# Altium footprint library Inductor_Small.PcbLib: 1 footprints
Each footprint in its own frame and in the unit in brackets; x right, y up, seen from the top. Pads: shape width x height; smd on the part's side, far side on the other; paste and mask are expansions set on the pad; w line width, h text height; cw(c..) or ccw(c..) is an arc to the next point about the centre after c.
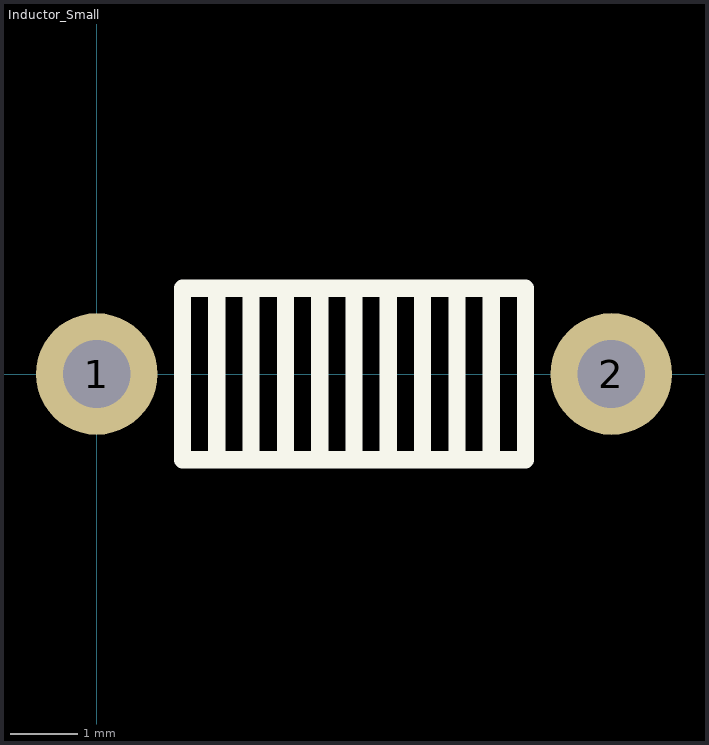
[diagram p0: the footprint, top view; thin cyan lines are the x and y axes]

## Inductor_Small [mm]
pads (2):
  round 1.8 hole 1: 1(0,0) 2(7.62,0)
Top Overlay:
  lines w0.254: 1.778,-1.27 1.778,1.27 ; 2.286,-1.27 2.286,1.27 ; 2.794,-1.27 2.794,1.27 ; 3.302,-1.27 3.302,1.27 ; 3.81,-1.27 3.81,1.27 ; 4.318,-1.27 4.318,1.27 ; 4.826,-1.27 4.826,1.27 ; 5.334,-1.27 5.334,1.27 ; 5.842,-1.27 5.842,1.27 ; 1.27,-1.27 6.35,-1.27 6.35,1.27 1.27,1.27 1.27,-1.27